# EAGLE library part V__VFD_16-MT-43ZK (library ++Bedrahtet)
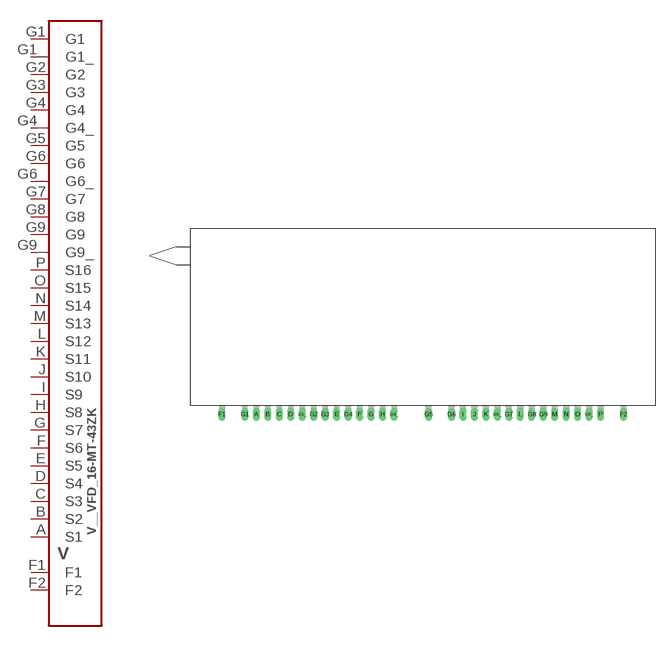
[diagram p30: symbol with the pads of VFD_16-MT-43ZK; footprint VFD_16-MT-43ZK]

Designator prefix V

## V__VFD_16-MT-43ZK  [VFD_16-MT-43ZK]
A  S1
B  S2
C  S3
D  S4
E  S5
F  S6
F1  F1
F2  F2
G  S7
G1  G1
G1_  G1_
G2  G2
G3  G3
G4  G4
G4_  G4_
G5  G5
G6  G6
G6_  G6_
G7  G7
G8  G8
G9  G9
G9_  G9_
H  S8
I  S9
J  S10
K  S11
L  S12
M  S13
N  S14
O  S15
P  S16

## Footprint VFD_16-MT-43ZK (pad centres in mm)
drill 1 long: A 7.62,0; B 10.16,0; C 12.7,0; D 15.24,0; E 25.4,0; F 30.48,0; F1 0,0; F2 88.9,0; G 33.02,0; G1 5.08,0; G1_ 17.78,0; G2 20.32,0; G3 22.86,0; G4 27.94,0; G4_ 38.1,0; G5 45.72,0; G6 50.8,0; G6_ 60.96,0; G7 63.5,0; G8 68.58,0; G9 71.12,0; G9_ 81.28,0; H 35.56,0; I 53.34,0; J 55.88,0; K 58.42,0; L 66.04,0; M 73.66,0; N 76.2,0; O 78.74,0; P 83.82,0